# EAGLE library part FM25V01 (library FM25V01)
The FM25V01A is a 128-Kbit nonvolatile memory employing an advanced ferroelectric process. An F-RAM is nonvolatile and performs reads and writes similar to a RAM. It provides reliable data retention for 151 years while eliminating the complexities, overhead, and system-level reliability problems caused by serial flash, EEPROM, and other nonvolatile memories. Unlike serial flash and EEPROM, the FM25V01A performs write operations at bus speed. No write delays are incurred. Data is written to the memory array immediately after each byte is successfully transferred to the device. The next bus cycle can commence without the need for data polling. In addition, the product offers substantial write endurance compared with other nonvolatile memories. The FM25V01A is capable of supporting 1014 read/write cycles, or 100 million times more write cycles than EEPROM.
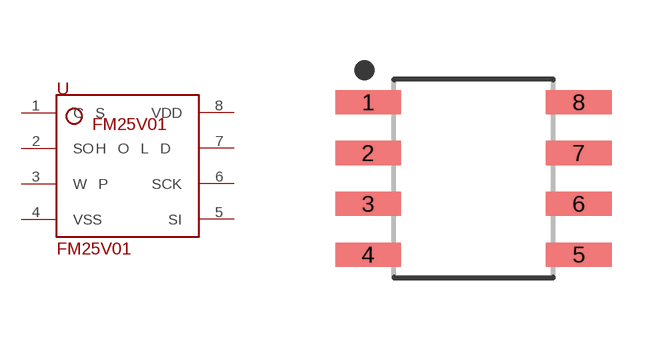
[diagram p0: symbol with the pads of SOIC127P601X172-8N; footprint SOIC127P601X172-8N]

Designator prefix -

## FM25V01 (PARTNO: FM52V01)  [SOIC127P601X172-8N]
1  C̅S̅
2  SO
3  W̅P̅
4  VSS
5  SI
6  SCK
7  H̅O̅L̅D̅
8  VDD

## Footprint SOIC127P601X172-8N (pad centres in mm)
8-SOIC, 1.27 mm pitch, 6.02 mm span, 4.89 X 3.89 X 1.73 mm body 8-pin SOIC package with 1.27 mm pitch, 6.02 mm span with body size 4.89 X 3.89 X 1.73 mm
smd 1.641 x 0.602: 1 -2.637,1.905; 2 -2.637,0.635; 3 -2.637,-0.635; 4 -2.637,-1.905; 5 2.637,-1.905; 6 2.637,-0.635; 7 2.637,0.635; 8 2.637,1.905